# Altium footprint library TSSOP14.PcbLib: 1 footprints
Each footprint in its own frame and in the unit in brackets; x right, y up, seen from the top. Pads: shape width x height; smd on the part's side, far side on the other; paste and mask are expansions set on the pad; w line width, h text height; cw(c..) or ccw(c..) is an arc to the next point about the centre after c.
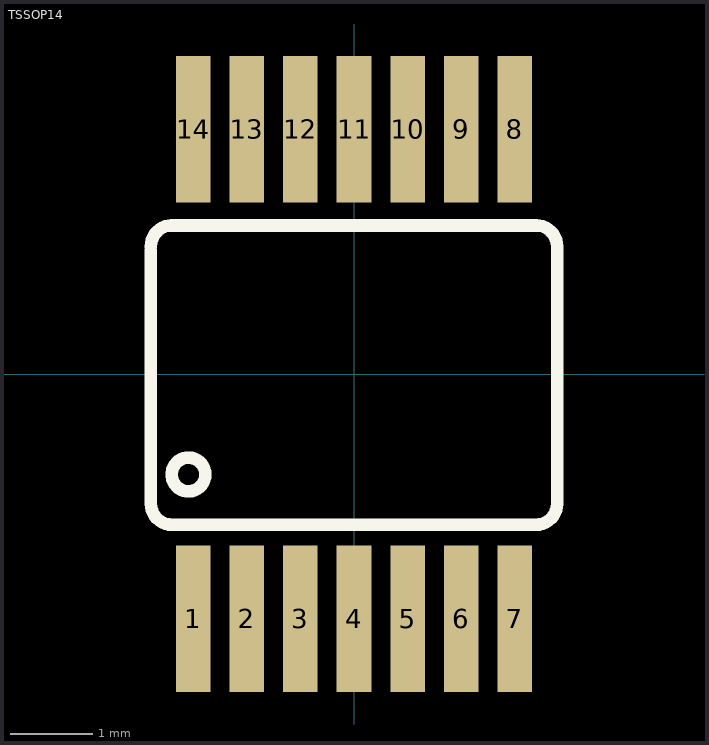
[diagram p0: the footprint, top view; thin cyan lines are the x and y axes]

## TSSOP14 [mm]
pads (14):
  rect 0.42x1.78 smd: 1(-1.95,-2.97) 2(-1.3,-2.97) 3(-0.65,-2.97) 4(0,-2.97) 5(0.65,-2.97) 6(1.3,-2.97) 7(1.95,-2.97) 8(1.95,2.97) 9(1.3,2.97) 10(0.65,2.97) 11(0,2.97) 12(-0.65,2.97) 13(-1.3,2.97) 14(-1.95,2.97)
Top Overlay:
  circle w0.152: c-2.008,-1.219 r0.205
  lines w0.152: -2.465,-1.575 -2.465,1.499 ; -2.464,-1.575 ccw(c-2.21,-1.575) -2.21,-1.829 ; -2.464,1.549 cw(c-2.21,1.549) -2.21,1.803 ; -2.211,-1.827 2.211,-1.827 ; -2.211,1.802 2.211,1.802 ; 2.21,-1.829 ccw(c2.21,-1.575) 2.464,-1.575 ; 2.21,1.803 cw(c2.21,1.549) 2.464,1.549 ; 2.465,-1.575 2.465,1.549
3D body: height 1.1, standoff 0, extent -2.5,-3.2 2.5,3.2